# Altium schematic symbol library 5019400307.Schlib: 1 symbol
Pins are listed as number, name and electrical type; pins without a type are passive.

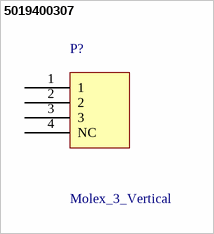
[diagram p0: symbol 5019400307]

## 5019400307
designator P?, comment Molex_3_Vertical
3 Pin Vertical Molex PCB Header
pins: 1, 2, 3, 4 NC